# Altium schematic symbol library IMTP_Разное.SchLib: 51 symbols
Pins are listed as number, name and electrical type; pins without a type are passive.

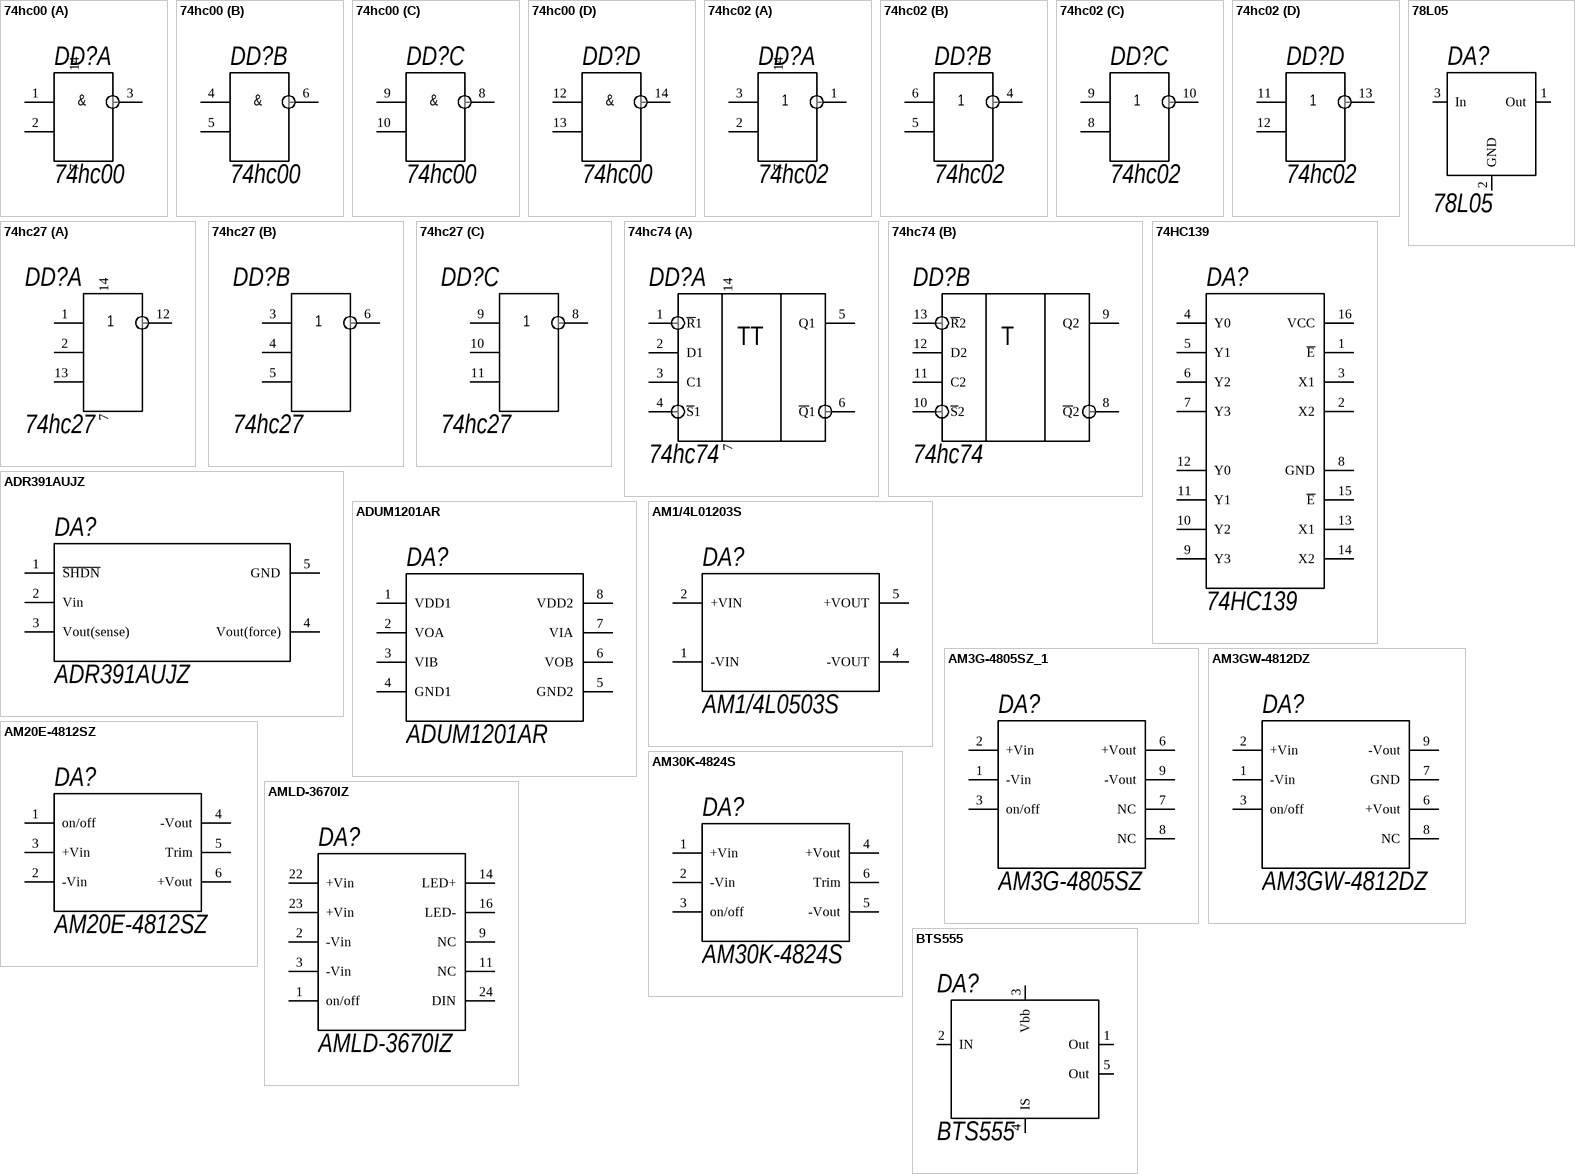
[diagram p0: symbols 74hc00 to BTS555]

## 74hc00
designator DD?
Quad 2-input NAND gate; LastRevisionDate: 11.06.2010; Name: 74hc00; OutComment: 74hc00; PackageDescription: SOIC14_M; Publisher: IMTP FEB RAS
footprint SOIC14_M (14-Pin Small Outline Integrated Circuit 1.27 mm Pitch, IPC Low Density)
footprint DIP14
part A pins: 1, 2, 3, 7 (power), 14 (power)
part B pins: 4, 5, 6
part C pins: 8, 9, 10
part D pins: 12, 13, 14
part A text: &
part B text: &
part C text: &
part D text: &

## 74hc02
designator DD?
Quad 2-input NOR gate; LastRevisionDate: 11.06.2010; Name: 74hc02; OutComment: 74hc02; PackageDescription: SOIC14_M; Publisher: IMTP FEB RAS
footprint SOIC14_M (14-Pin Small Outline Integrated Circuit 1.27 mm Pitch, IPC Low Density)
footprint DIP14
part A pins: 1, 2, 3, 7 (power), 14 (power)
part B pins: 4, 5, 6
part C pins: 8, 9, 10
part D pins: 11, 12, 13

## 74hc27
designator DD?
Quad 2-input OR gate; LastRevisionDate: 11.06.2010; Name: 74hc27; OutComment: 74hc27; PackageDescription: SOIC14_M; Publisher: IMTP FEB RAS
footprint SOIC14_M (14-Pin Small Outline Integrated Circuit 1.27 mm Pitch, IPC Low Density)
footprint DIP14
part A pins: 1, 2, 7 (power), 12, 13, 14 (power)
part B pins: 3 1, 4 2, 5 13, 6 12
part C pins: 8 12, 9 1, 10 2, 11 13

## 74hc74
designator DD?
LINE DECODER; LastRevisionDate: 11.06.2010; Name: 74hc74; OutComment: 74hc74; PackageDescription: SOIC14_M; Publisher: IMTP FEB RAS
footprint SOIC14_M (14-Pin Small Outline Integrated Circuit 1.27 mm Pitch, IPC Low Density)
part A pins: 1 ~{R}1, 2 D1, 3 С1, 4 ~{S}1, 5 Q1, 6 ~{Q}1, 7 (power), 14 (power)
part B pins: 8 ~{Q}2, 9 Q2, 10 ~{S}2, 11 С2, 12 D2, 13 ~{R}2
part A text: ТТ
part B text: Т

## 74HC139
designator DA?
димультиплексор; LastRevisionDate: 74HC139; Name: 74HC139; OutComment: 74HC139; PackageDescription: Кубик; Publisher: IMTP FEB RAS
footprint AM3GW-4812DZ
pins: 1 ~{E}, 2 X2, 3 X1, 4 Y0, 5 Y1, 6 Y2, 7 Y3, 8 GND, 9 Y3, 10 Y2, 11 Y1, 12 Y0, 13 X1, 14 X2, 15 ~{E}, 16 VCC

## 78L05
designator DA?
7805 TO-220; LastRevisionDate: 25.03.2010; Name: 78L05; OutComment: 78L05; PackageDescription: Кубик; Publisher: IMTP FEB RAS
footprint TO-92 (TO, Flat Index; 3 In-Line, Axial Leads; Body Dia. 5.1mm; Leads 0.48 x 0.48 mm (max))
pins: 1 Out, 2 GND, 3 In

## ADR391AUJZ
designator DA?
REF 2,5V; LastRevisionDate: 25.03.2010; Name: ADR391AUJZ; OutComment: ADR391AUJZ; PackageDescription: TO-92; Publisher: IMTP FEB RAS
footprint SOT23-5AM (SOT23, 5-Leads, Body 2.9x1.7mm, Pitch 0.95mm, Lead Span 2.8mm, IPC Low Density)
pins: 1 ~{SHDN} (power), 2 Vin (power), 3 Vout(sense) (power), 4 Vout(force), 5 GND (power)

## ADUM1201AR
designator DA?
DC/DC SOT23; LastRevisionDate: 25.03.2010; Name: ADUM1201AR; OutComment: ADUM1201AR; PackageDescription: TO-92; Publisher: IMTP FEB RAS
pins: 1 VDD1 (power), 2 VOA (power), 3 VIB (power), 4 GND1, 5 GND2 (power), 6 VOB (power), 7 VIA (power), 8 VDD2 (power)

## AM1/4L01203S
designator DA?, comment AM1/4L0503S
DC/DC SOT23; LastRevisionDate: 25.03.2010; Name: AM1/4L0503S; OutComment: AM1/4L0503S; Publisher: IMTP FEB RAS
footprint AM1/4L
pins: 1 -VIN (power), 2 +VIN (power), 4 -VOUT, 5 +VOUT

## AM3G-4805SZ_1
designator DA?, comment AM3G-4805SZ
DC-DC; LastRevisionDate: AM3G-4805SZ; Name: AM3G-4805SZ; OutComment: AM3G-4805SZ; PackageDescription: Кубик; Publisher: IMTP FEB RAS
footprint AM3G-4805SZ
pins: 1 -Vin, 2 +Vin, 3 on/off, 6 +Vout, 7 NC, 8 NC, 9 -Vout

## AM3GW-4812DZ
designator DA?
DC-DC; LastRevisionDate: AM3GW-4812DZ; Name: AM3GW-4812DZ; OutComment: AM3GW-4812DZ; PackageDescription: Кубик; Publisher: IMTP FEB RAS
footprint AM3GW-4812DZ
pins: 1 -Vin, 2 +Vin, 3 on/off, 6 +Vout, 7 GND, 8 NC, 9 -Vout

## AM20E-4812SZ
designator DA?
DC-DC; LastRevisionDate: AM20E-4812SZ; Name: AM20E-4812SZ; OutComment: AM20E-4812SZ; PackageDescription: Кубик; Publisher: IMTP FEB RAS
footprint AM20E-4812SZ
pins: 1 on/off, 2 -Vin, 3 +Vin, 4 -Vout, 5 Trim, 6 +Vout

## AM30K-4824S
designator DA?
DC-DC; LastRevisionDate: 25.03.2010; Name: AM30K-4824S; OutComment: AM30K-4824S; PackageDescription: Кубик; Publisher: IMTP FEB RAS
footprint AM30K-4824S
pins: 1 +Vin, 2 -Vin, 3 on/off, 4 +Vout, 5 -Vout, 6 Trim

## AMLD-3670IZ
designator DA?
LED DRIVE; LastRevisionDate: AMLD-3670IZ; Name: AMLD-3670IZ; OutComment: AMLD-3670IZ; PackageDescription: Кубик; Publisher: IMTP FEB RAS
footprint AMLD-3670IZ
pins: 1 on/off, 2 -Vin, 3 -Vin, 9 NC, 11 NC, 14 LED+, 16 LED-, 22 +Vin, 23 +Vin, 24 DIN

## BTS555
designator DA?
Smart Highside High Current Power Switch; LastRevisionDate: 11.06.2010; Name: BTS555; OutComment: BTS555; PackageDescription: TO-218AB; Publisher: IMTP FEB RAS
footprint TO-218AB
pins: 1 Out, 2 IN, 3 Vbb, 4 IS, 5 Out

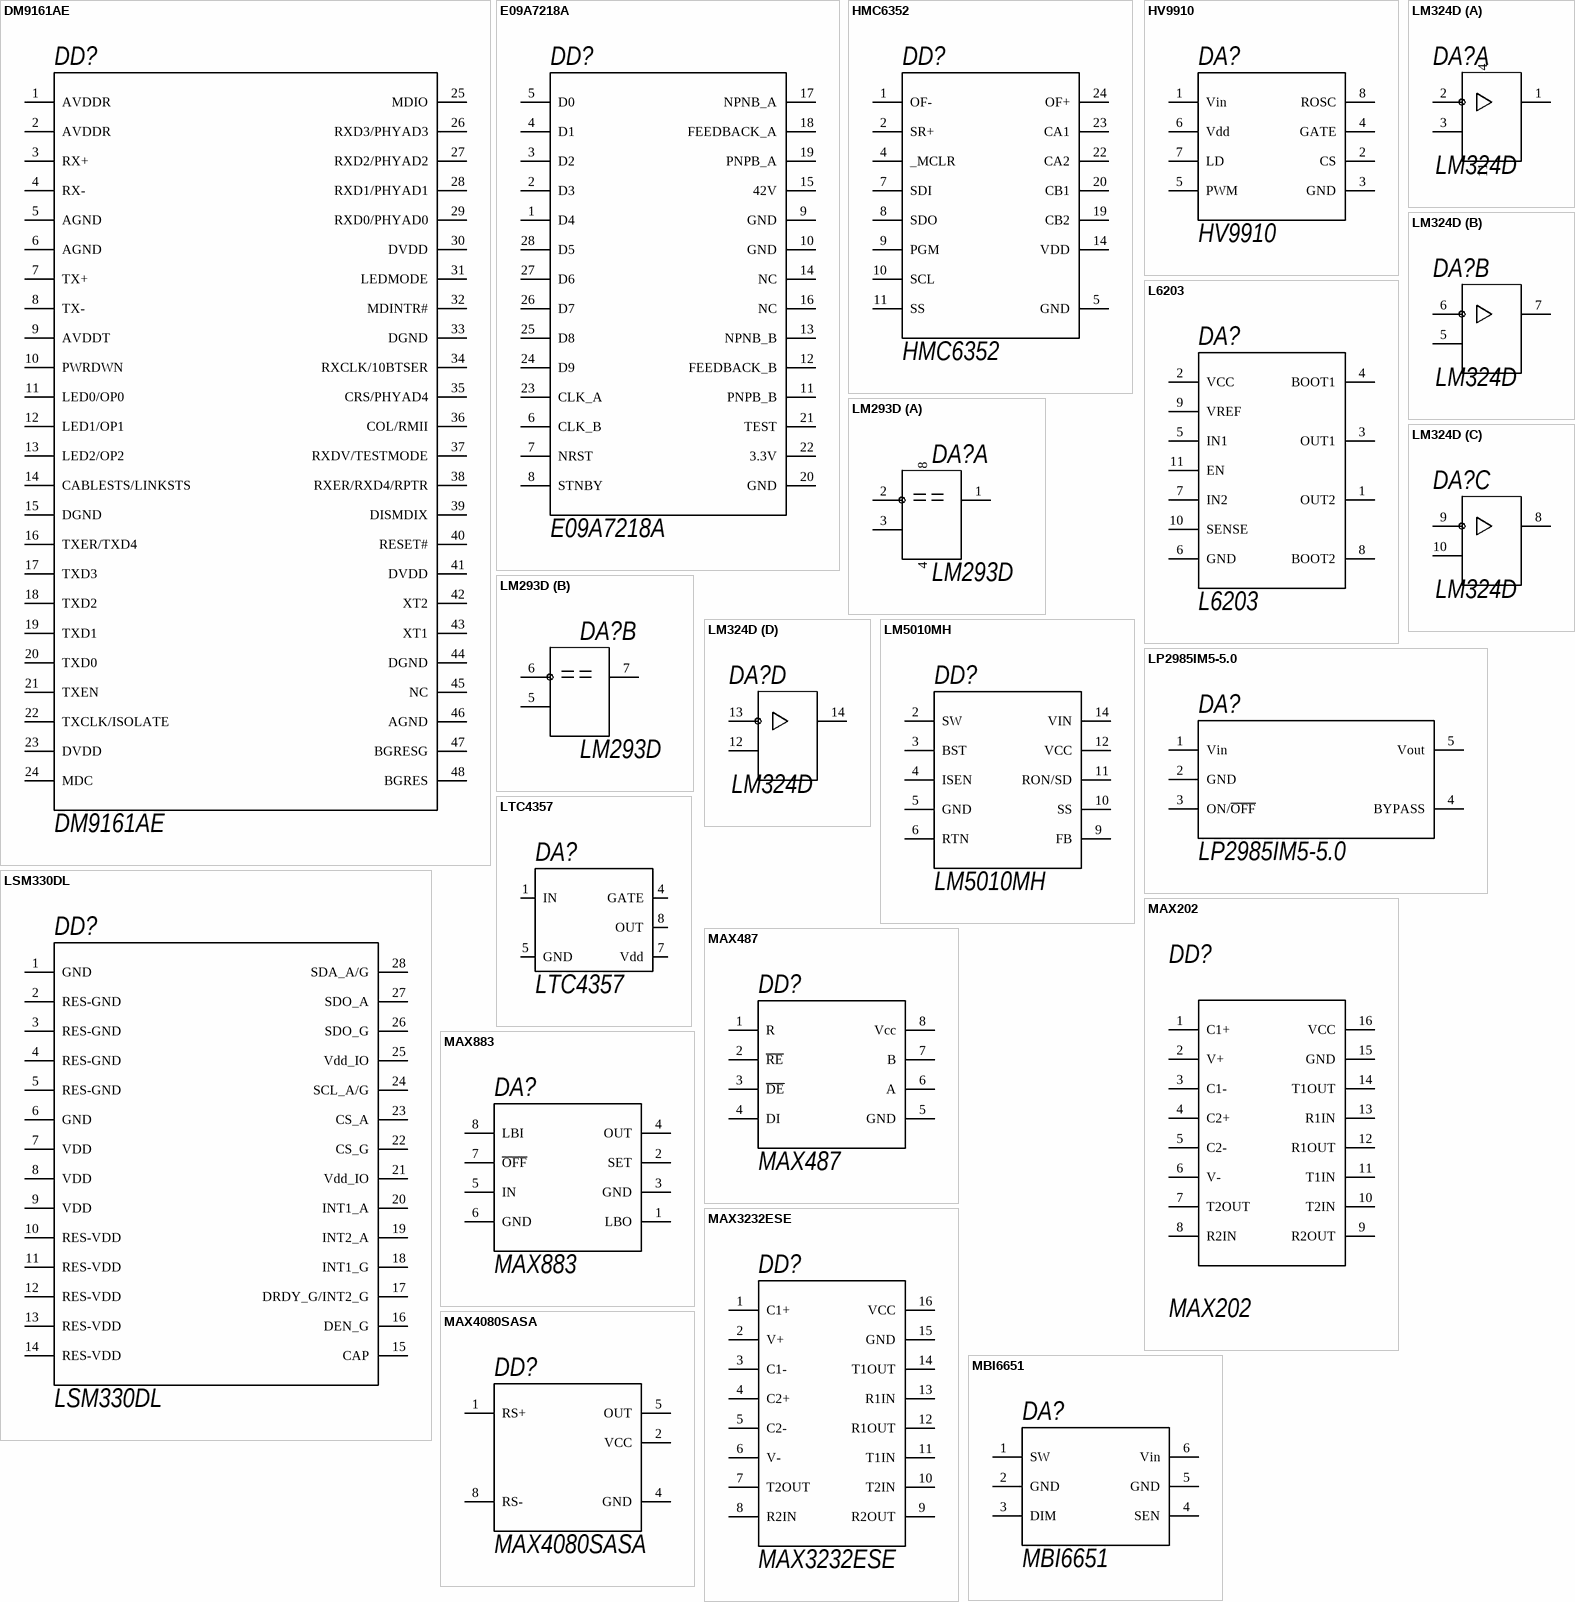
[diagram p1: symbols DM9161AE to MBI6651]

## DM9161AE
designator DD?
8-Bit AVR Microcontroller; Publisher: IMTP FEB RAS; PackageDescription: 64-Pin Thin Quad Flat Pack 0.8 mm Pitch; OutComment: DM9161AE; Name: DM9161AE; LatestRevisionDate: 22.03.2010
footprint 48A_M (Thin QFP, 48-Leads, Body 7x7mm, Pitch 0.5mm, IPC Low Density)
pins: 1 AVDDR, 2 AVDDR, 3 RX+, 4 RX-, 5 AGND, 6 AGND, 7 TX+, 8 TX-, 9 AVDDT, 10 PWRDWN, 11 LED0/OP0, 12 LED1/OP1, 13 LED2/OP2, 14 CABLESTS/LINKSTS, 15 DGND, 16 TXER/TXD4, 17 TXD3, 18 TXD2, 19 TXD1, 20 TXD0, 21 TXEN (power), 22 TXCLK/ISOLATE (power), 23 DVDD, 24 MDC, 25 MDIO, 26 RXD3/PHYAD3, 27 RXD2/PHYAD2, 28 RXD1/PHYAD1, 29 RXD0/PHYAD0, 30 DVDD, 31 LEDMODE, 32 MDINTR#, 33 DGND, 34 RXCLK/10BTSER, 35 CRS/PHYAD4, 36 COL/RMII, 37 RXDV/TESTMODE, 38 RXER/RXD4/RPTR, 39 DISMDIX, 40 RESET#, 41 DVDD, 42 XT2, 43 XT1, 44 DGND, 45 NC, 46 AGND, 47 BGRESG, 48 BGRES

## E09A7218A
designator DD?
8-Bit AVR Microcontroller; Publisher: IMTP FEB RAS; OutComment: E09A7218A; Name: E09A7218A; LatestRevisionDate: 22.03.2010
pins: 1 D4, 2 D3, 3 D2, 4 D1, 5 D0, 6 CLK_B, 7 NRST, 8 STNBY, 9 GND, 10 GND, 11 PNPB_B, 12 FEEDBACK_B, 13 NPNB_B, 14 NC, 15 42V, 16 NC, 17 NPNB_A, 18 FEEDBACK_A, 19 PNPB_A, 20 GND, 21 TEST, 22 3.3V, 23 CLK_A, 24 D9, 25 D8, 26 D7, 27 D6, 28 D5

## HMC6352
designator DD?
Publisher: IMTP FEB RAS; OutComment: HMC6352; Name: HMC6352; LatestRevisionDate: 22.03.2010
pins: 1 OF-, 2 SR+, 4 _MCLR, 5 GND, 7 SDI, 8 SDO, 9 PGM, 10 SCL, 11 SS, 14 VDD, 19 CB2, 20 CB1, 22 CA2 (power), 23 CA1, 24 OF+

## HV9910
designator DA?
LastRevisionDate: 25.03.2010; Name: HV9910; OutComment: HV9910; PackageDescription: SOIC 8; Publisher: IMTP FEB RAS
footprint SOJ-8
pins: 1 Vin, 2 CS, 3 GND, 4 GATE, 5 PWM, 6 Vdd, 7 LD, 8 ROSC

## L6203
designator DA?
H-most; LastRevisionDate: 11.06.2010; Name: L6203; OutComment: L6203; PackageDescription: SOIC16; Publisher: IMTP FEB RAS
pins: 1 OUT2, 2 VCC, 3 OUT1, 4 BOOT1 (power), 5 IN1, 6 GND, 7 IN2, 8 BOOT2, 9 VREF (power), 10 SENSE (power), 11 EN

## LM293D
designator DA?
LastRevisionDate: 11.06.2010; Name: LM293D; OutComment: LM293D; PackageDescription: TSSOP-24; Publisher: IMTP FEB RAS
footprint SOJ-8
part A pins: 1, 2, 3, 4 (power), 8 (power)
part B pins: 5, 6, 7

## LM324D
designator DA?
LastRevisionDate: 11.06.2010; Name: LM324D; OutComment: LM324D; Publisher: IMTP FEB RAS
footprint SOIC14_M (14-Pin Small Outline Integrated Circuit 1.27 mm Pitch, IPC Low Density)
part A pins: 1, 2, 3, 4 (power), 11 (power)
part B pins: 5, 6, 7
part C pins: 8, 9, 10
part D pins: 12, 13, 14

## LM5010MH
designator DD?
Publisher: IMTP FEB RAS; OutComment: LM5010MH; Name: LM5010MH; LatestRevisionDate: 22.03.2010
pins: 2 SW, 3 BST, 4 ISEN, 5 GND, 6 RTN, 9 FB, 10 SS, 11 RON/SD, 12 VCC, 14 VIN

## LP2985IM5-5.0
designator DA?
STABILIZATOR 5V SOT23; LastRevisionDate: 25.03.2010; Name: LP2985IM5-5.0; OutComment: LP2985IM5-5.0; PackageDescription: SOT23; Publisher: IMTP FEB RAS
footprint SOT23-5AM (SOT23, 5-Leads, Body 2.9x1.7mm, Pitch 0.95mm, Lead Span 2.8mm, IPC Low Density)
pins: 1 Vin (power), 2 GND (power), 3 ON/~{OFF} (power), 4 BYPASS, 5 Vout (power)

## LSM330DL
designator DD?
Publisher: IMTP FEB RAS; OutComment: LSM330DL; Name: LSM330DL; LatestRevisionDate: 22.03.2010
pins: 1 GND, 2 RES-GND, 3 RES-GND, 4 RES-GND, 5 RES-GND, 6 GND, 7 VDD, 8 VDD, 9 VDD, 10 RES-VDD, 11 RES-VDD, 12 RES-VDD, 13 RES-VDD, 14 RES-VDD, 15 CAP, 16 DEN_G, 17 DRDY_G/INT2_G, 18 INT1_G, 19 INT2_A, 20 INT1_A, 21 Vdd_IO (power), 22 CS_G (power), 23 CS_A, 24 SCL_A/G, 25 Vdd_IO, 26 SDO_G, 27 SDO_A, 28 SDA_A/G

## LTC4357
designator DA?
Positive High Voltage  Ideal Diode Controller; LastRevisionDate: 11.06.2010; Name: LTC4357; OutComment: LTC4357; PackageDescription: MSOP8; Publisher: IMTP FEB RAS
footprint MSOP8 (TSOP, 8-Leads, Body 3x3mm, Pitch 0.65mm, IPC High Density)
pins: 1 IN, 4 GATE, 5 GND, 7 Vdd, 8 OUT

## MAX202
designator DD?
RS-232 Transceiver; LastRevisionDate: 11.06.2010; Name: MAX202; OutComment: MAX202; PackageDescription: SOIC16; Publisher: IMTP FEB RAS
footprint SOIC16 (Small Outline; 16 Leads; Body Width 3.9 mm; Pitch 1.27 mm)
pins: 1 C1+, 2 V+ (power), 3 C1-, 4 C2+, 5 C2-, 6 V- (power), 7 T2OUT, 8 R2IN, 9 R2OUT, 10 T2IN, 11 T1IN, 12 R1OUT, 13 R1IN, 14 T1OUT, 15 GND (power), 16 VCC (power)

## MAX487
designator DD?
LastRevisionDate: 25.03.2010; Name: MAX487; OutComment: MAX487; PackageDescription: SOIC 8; Publisher: IMTP FEB RAS
footprint SOJ-8
pins: 1 R, 2 ~{RE}, 3 ~{DE}, 4 DI, 5 GND, 6 A, 7 B, 8 Vcc

## MAX883
designator DA?
LastRevisionDate: 25.03.2010; Name: MAX883; OutComment: MAX883; PackageDescription: SOIC 8; Publisher: IMTP FEB RAS
footprint SOJ-8
pins: 1 LBO, 2 SET, 3 GND, 4 OUT, 5 IN, 6 GND, 7 ~{OFF}, 8 LBI

## MAX3232ESE
designator DD?
RS-232 Transceiver; LastRevisionDate: 11.06.2010; Name: MAX3232ESE; OutComment: MAX3232ESE; PackageDescription: SOIC16; Publisher: IMTP FEB RAS
footprint SOIC16 (Small Outline; 16 Leads; Body Width 3.9 mm; Pitch 1.27 mm)
pins: 1 C1+, 2 V+ (power), 3 C1-, 4 C2+, 5 C2-, 6 V- (power), 7 T2OUT, 8 R2IN, 9 R2OUT, 10 T2IN, 11 T1IN, 12 R1OUT, 13 R1IN, 14 T1OUT, 15 GND (power), 16 VCC (power)

## MAX4080SASA
designator DD?
LastRevisionDate: 25.03.2010; Name: MAX4080SASA; OutComment: MAX4080SASA; PackageDescription: SOIC 8; Publisher: IMTP FEB RAS
footprint SOJ-8
pins: 1 RS+, 2 VCC, 4 GND, 5 OUT, 8 RS-

## MBI6651
designator DA?
LED DRIVE; LastRevisionDate: MBI6651; Name: MBI6651; OutComment: MBI6651; PackageDescription: Кубик; Publisher: IMTP FEB RAS
footprint SOT363-6M
pins: 1 SW, 2 GND, 3 DIM, 4 SEN, 5 GND, 6 Vin

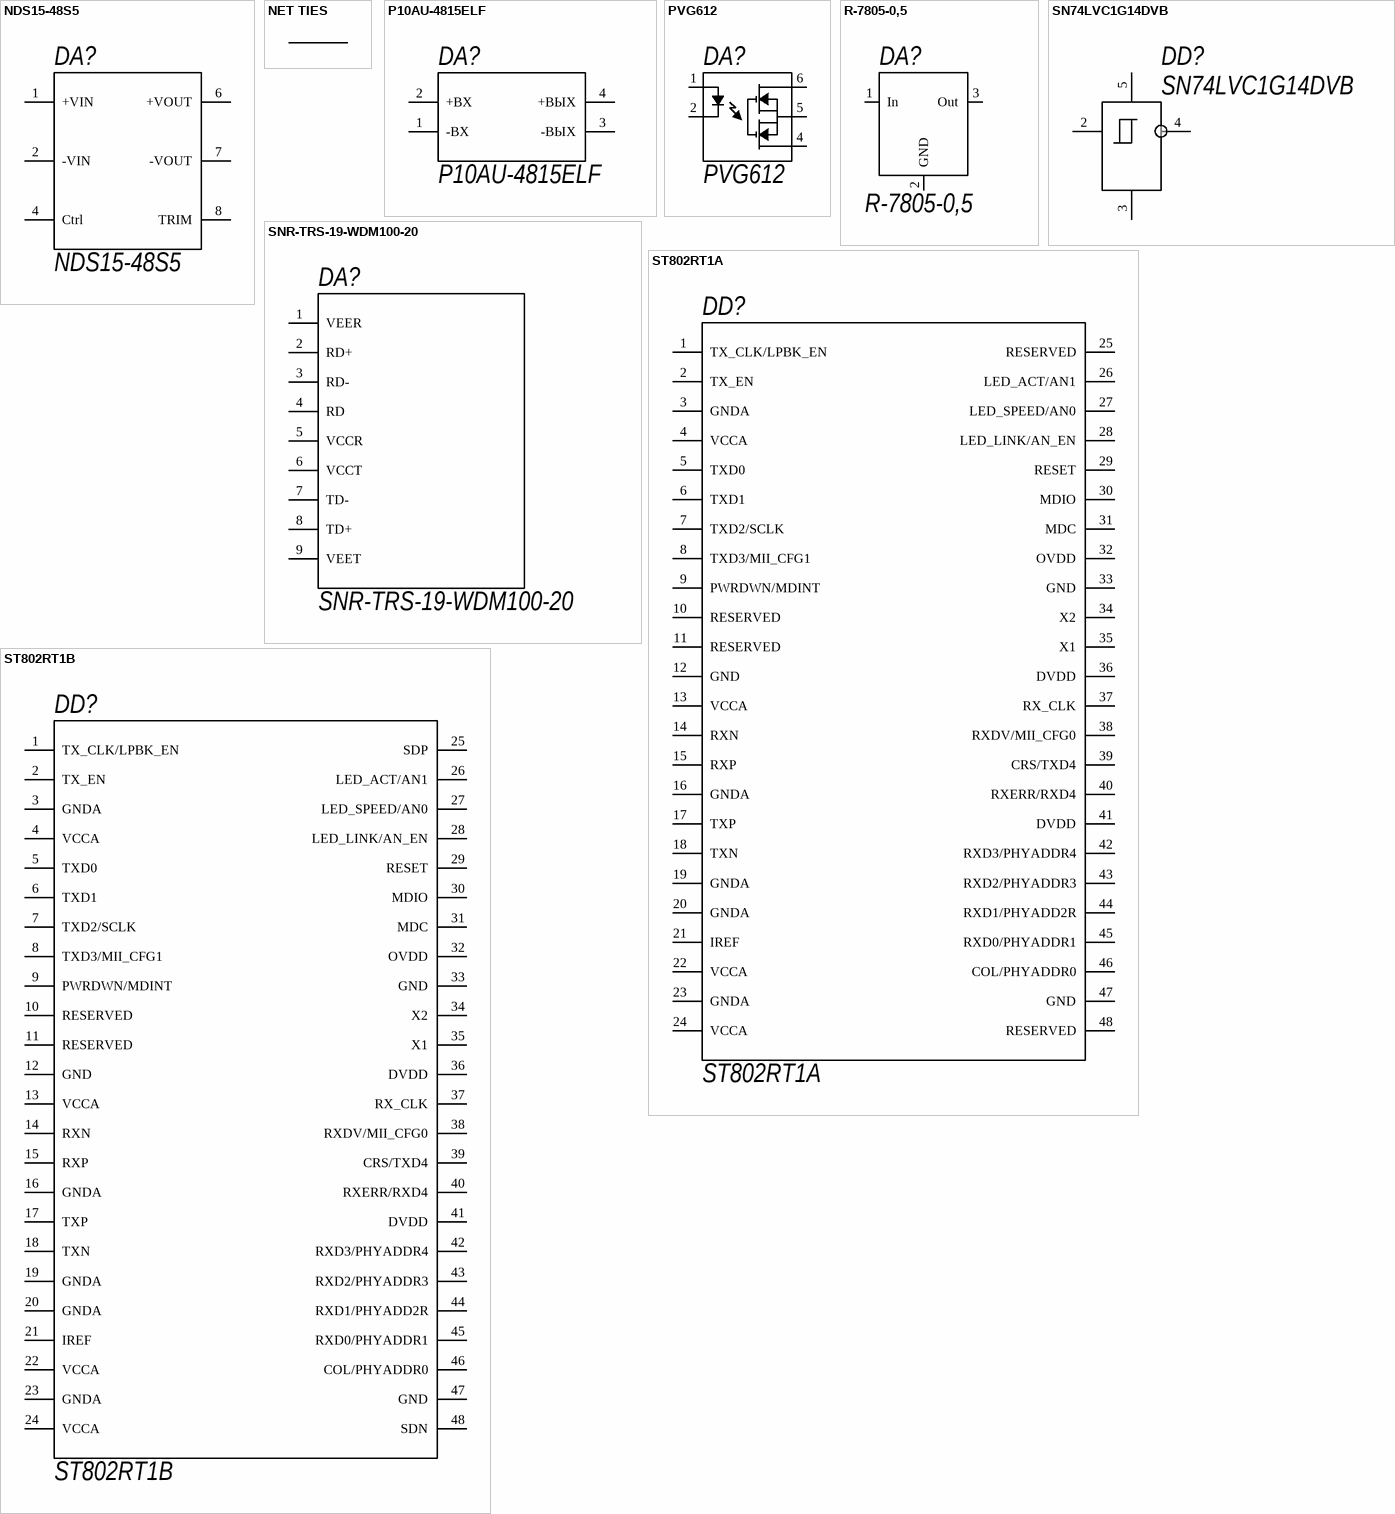
[diagram p2: symbols NDS15-48S5 to ST802RT1B]

## NDS15-48S5
designator DA?
DC-DC; LastRevisionDate: 7.12.2010; Name: NDS15-48S5; OutComment: NDS15-48S5; PackageDescription: Кубик; Publisher: IMTP FEB RAS
footprint NDS15-48S05
pins: 1 +VIN, 2 -VIN, 4 Ctrl, 6 +VOUT, 7 -VOUT, 8 TRIM

## NET TIES
designator *  (value not drawn)  (net tie, no BOM)
footprint NET TIES
pins: 1, 2

## P10AU-4815ELF
designator DA?
DC-DC; LastRevisionDate: 25.03.2010; Name: P10AU-4815ELF; OutComment: P10AU-4815ELF; PackageDescription: Кубик; Publisher: IMTP FEB RAS
pins: 1 -ВХ, 2 +ВХ, 3 -ВЫХ, 4 +ВЫХ

## PVG612
designator DA?
Power MOSFET Photovoltaic Relay; LastRevisionDate: 11.06.2010; Name: PVG612; OutComment: PVG612; PackageDescription: DIP-6; Publisher: IMTP FEB RAS
footprint DIP-6 (DIP; 6 Leads; Row Spacing 7.62 mm; Pitch 2.54 mm)
pins: 1 IN, 2 Vbb, 4 Out, 5 Out, 6 Out

## R-7805-0,5
designator DA?
7805 TO-220; LastRevisionDate: 25.03.2010; Name: R-7805-0,5; OutComment: R-7805-0,5; PackageDescription: Кубик; Publisher: IMTP FEB RAS
footprint Кубик
pins: 1 In, 2 GND, 3 Out

## SN74LVC1G14DVB
designator DD?
DC/DC SOT23; LastRevisionDate: 25.03.2010; Name: SN74LVC1G14DVB; OutComment: SN74LVC1G14DVB; PackageDescription: TO-92; Publisher: IMTP FEB RAS
pins: 2 (power), 3 (power), 4, 5 (power)

## SNR-TRS-19-WDM100-20
designator DA?
Publisher: IMTP FEB RAS; OutComment: SNR-TRS-19-WDM100-20; Name: SNR-TRS-19-WDM100-20; LatestRevisionDate: 22.03.2010
pins: 1 VEER, 2 RD+, 3 RD-, 4 RD, 5 VCCR, 6 VCCT, 7 TD-, 8 TD+, 9 VEET

## ST802RT1A
designator DD?
Publisher: IMTP FEB RAS; OutComment: ST802RT1A; Name: ST802RT1A; LatestRevisionDate: 22.03.2010
pins: 1 TX_CLK/LPBK_EN, 2 TX_EN, 3 GNDA, 4 VCCA, 5 TXD0, 6 TXD1, 7 TXD2/SCLK, 8 TXD3/MII_CFG1, 9 PWRDWN/MDINT, 10 RESERVED, 11 RESERVED, 12 GND, 13 VCCA, 14 RXN, 15 RXP, 16 GNDA, 17 TXP, 18 TXN, 19 GNDA, 20 GNDA, 21 IREF (power), 22 VCCA (power), 23 GNDA, 24 VCCA, 25 RESERVED, 26 LED_ACT/AN1, 27 LED_SPEED/AN0, 28 LED_LINK/AN_EN, 29 RESET, 30 MDIO, 31 MDC, 32 OVDD, 33 GND, 34 X2, 35 X1, 36 DVDD, 37 RX_CLK, 38 RXDV/MII_CFG0, 39 CRS/TXD4, 40 RXERR/RXD4, 41 DVDD, 42 RXD3/PHYADDR4, 43 RXD2/PHYADDR3, 44 RXD1/PHYADD2R, 45 RXD0/PHYADDR1, 46 COL/PHYADDR0, 47 GND, 48 RESERVED

## ST802RT1B
designator DD?
Publisher: IMTP FEB RAS; OutComment: ST802RT1B; Name: ST802RT1B; LatestRevisionDate: 22.03.2010
pins: 1 TX_CLK/LPBK_EN, 2 TX_EN, 3 GNDA, 4 VCCA, 5 TXD0, 6 TXD1, 7 TXD2/SCLK, 8 TXD3/MII_CFG1, 9 PWRDWN/MDINT, 10 RESERVED, 11 RESERVED, 12 GND, 13 VCCA, 14 RXN, 15 RXP, 16 GNDA, 17 TXP, 18 TXN, 19 GNDA, 20 GNDA, 21 IREF (power), 22 VCCA (power), 23 GNDA, 24 VCCA, 25 SDP, 26 LED_ACT/AN1, 27 LED_SPEED/AN0, 28 LED_LINK/AN_EN, 29 RESET, 30 MDIO, 31 MDC, 32 OVDD, 33 GND, 34 X2, 35 X1, 36 DVDD, 37 RX_CLK, 38 RXDV/MII_CFG0, 39 CRS/TXD4, 40 RXERR/RXD4, 41 DVDD, 42 RXD3/PHYADDR4, 43 RXD2/PHYADDR3, 44 RXD1/PHYADD2R, 45 RXD0/PHYADDR1, 46 COL/PHYADDR0, 47 GND, 48 SDN

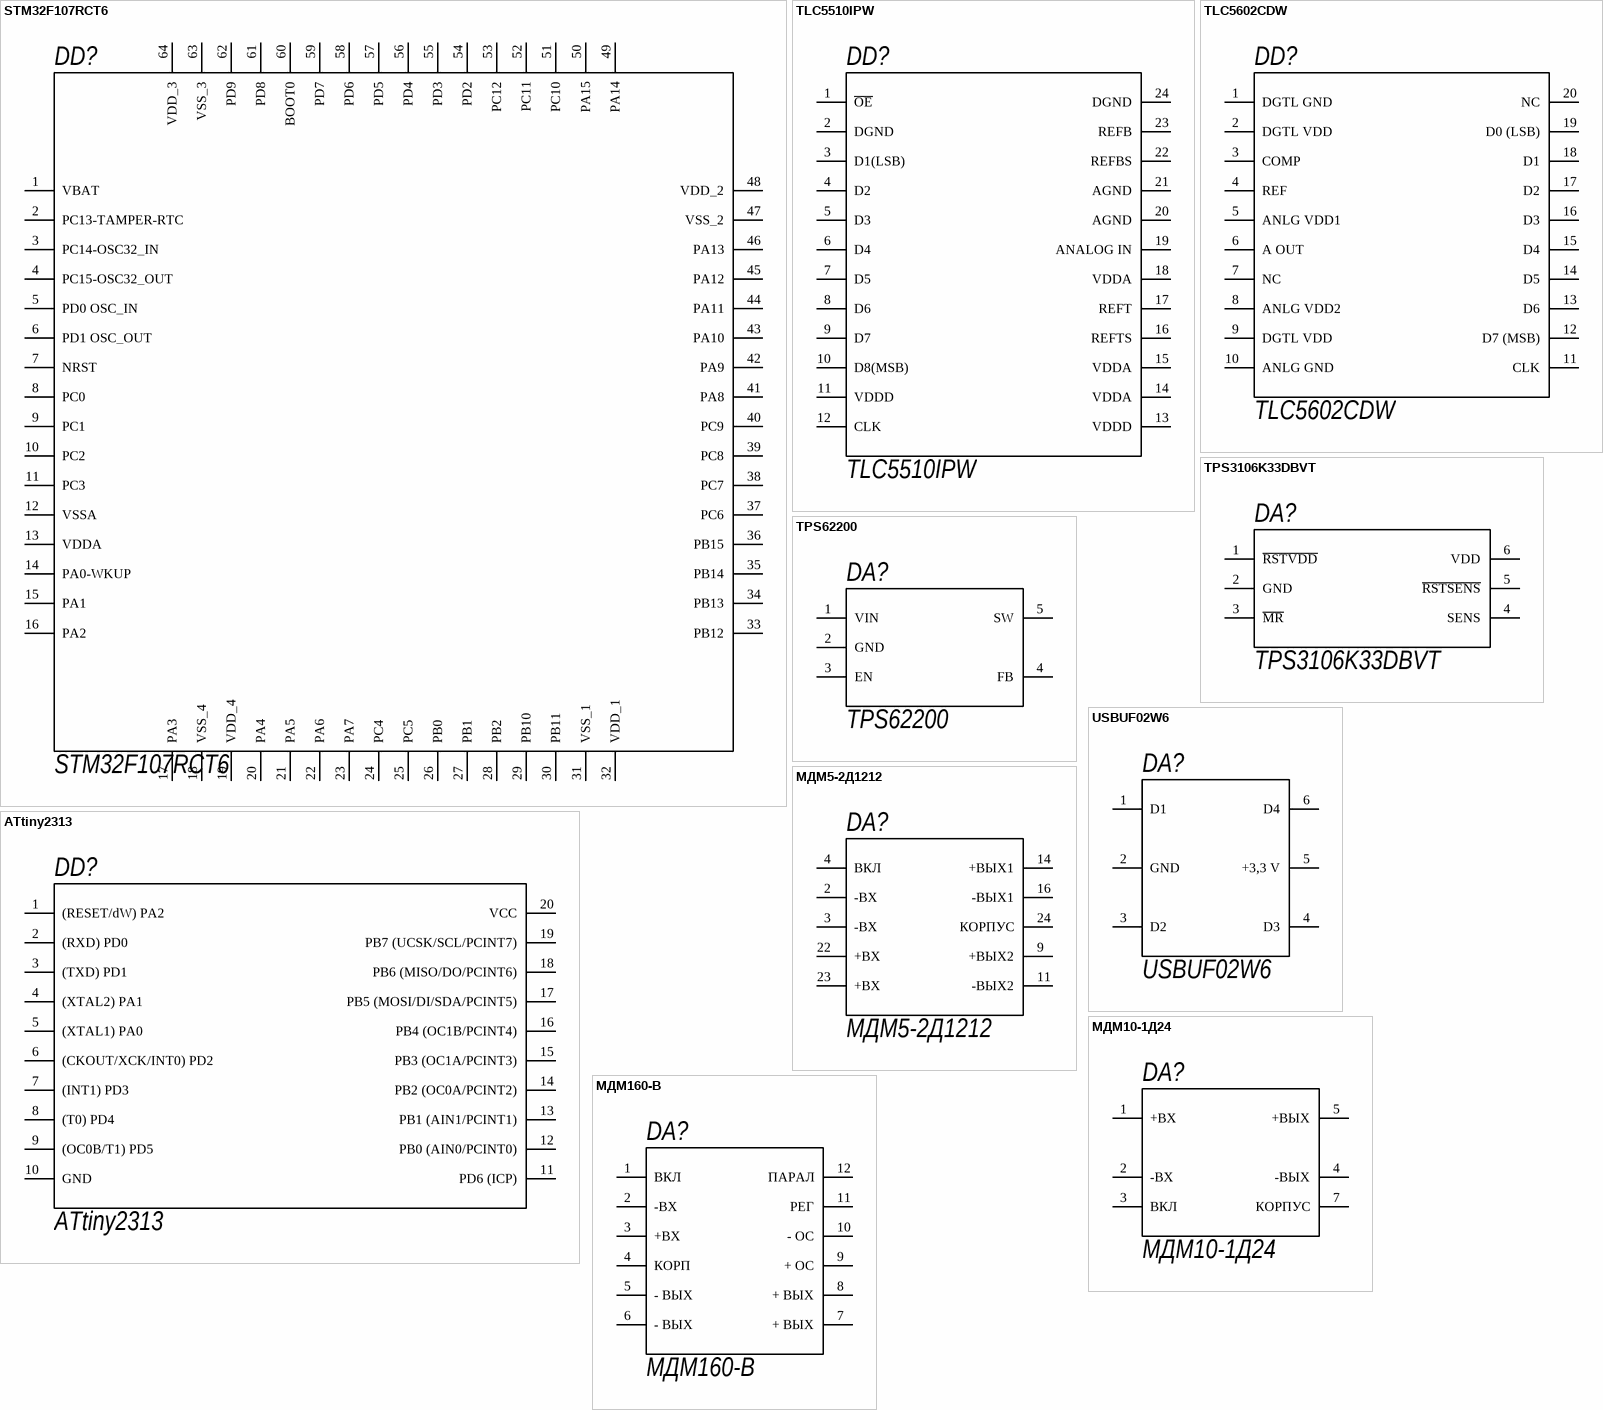
[diagram p3: symbols STM32F107RCT6 to МДМ160-В]

## STM32F107RCT6
designator DD?
Publisher: IMTP FEB RAS; OutComment: STM32F107RCT6; Name: STM32F107RCT6; LatestRevisionDate: 22.03.2010
pins: 1 VBAT, 2 PC13-TAMPER-RTC, 3 PC14-OSC32_IN, 4 PC15-OSC32_OUT, 5 PD0 OSC_IN, 6 PD1 OSC_OUT, 7 NRST, 8 PC0, 9 PC1, 10 PC2, 11 PC3, 12 VSSA, 13 VDDA, 14 PA0-WKUP, 15 PA1, 16 PA2, 17 PA3, 18 VSS_4, 19 VDD_4, 20 PA4, 21 PA5 (power), 22 PA6 (power), 23 PA7, 24 PC4, 25 PC5, 26 PB0, 27 PB1, 28 PB2, 29 PB10, 30 PB11, 31 VSS_1, 32 VDD_1, 33 PB12, 34 PB13, 35 PB14, 36 PB15, 37 PC6, 38 PC7, 39 PC8, 40 PC9, 41 PA8, 42 PA9, 43 PA10, 44 PA11, 45 PA12, 46 PA13, 47 VSS_2, 48 VDD_2, 49 PA14, 50 PA15, 51 PC10, 52 PC11, 53 PC12 (power), 54 PD2 (power), 55 PD3, 56 PD4, 57 PD5, 58 PD6, 59 PD7, 60 BOOT0, 61 PD8, 62 PD9, 63 VSS_3, 64 VDD_3

## TLC5510IPW
designator DD?
Publisher: IMTP FEB RAS; OutComment: TLC5510IPW; Name: TLC5510IPW; LatestRevisionDate: 22.03.2010
pins: 1 ~{OE}, 2 DGND, 3 D1(LSB), 4 D2, 5 D3, 6 D4, 7 D5, 8 D6, 9 D7, 10 D8(MSB), 11 VDDD, 12 CLK, 13 VDDD, 14 VDDA, 15 VDDA, 16 REFTS, 17 REFT, 18 VDDA, 19 ANALOG IN, 20 AGND, 21 AGND, 22 REFBS, 23 REFB, 24 DGND

## TLC5602CDW
designator DD?
Publisher: IMTP FEB RAS; OutComment: TLC5602CDW; Name: TLC5602CDW; LatestRevisionDate: 22.03.2010
pins: 1 DGTL GND, 2 DGTL VDD, 3 COMP, 4 REF, 5 ANLG VDD1, 6 A OUT, 7 NC, 8 ANLG VDD2, 9 DGTL VDD, 10 ANLG GND, 11 CLK, 12 D7 (MSB), 13 D6, 14 D5, 15 D4, 16 D3, 17 D2, 18 D1, 19 D0 (LSB), 20 NC

## TPS3106K33DBVT
designator DA?
DC/DC SOT23; LastRevisionDate: 25.03.2010; Name: TPS3106K33DBVT; OutComment: TPS3106K33DBVT; PackageDescription: TO-92; Publisher: IMTP FEB RAS
pins: 1 ~{RSTVDD} (power), 2 GND (power), 3 ~{MR} (power), 4 SENS, 5 ~{RSTSENS} (power), 6 VDD (power)

## TPS62200
designator DA?
DC/DC SOT23; LastRevisionDate: 25.03.2010; Name: TPS62200; OutComment: TPS62200; PackageDescription: TO-92; Publisher: IMTP FEB RAS
footprint SOT23-5AM (SOT23, 5-Leads, Body 2.9x1.7mm, Pitch 0.95mm, Lead Span 2.8mm, IPC Low Density)
pins: 1 VIN (power), 2 GND (power), 3 EN (power), 4 FB, 5 SW (power)

## USBUF02W6
designator DA?
USB; LastRevisionDate: 7.12.2010; Name: USBUF02W6; OutComment: USBUF02W6; Publisher: IMTP FEB RAS
footprint SOT363-6M
pins: 1 D1, 2 GND, 3 D2, 4 D3, 5 +3,3 V, 6 D4

## АТtiny2313
designator DD?
Publisher: IMTP FEB RAS; OutComment: АТtiny2313; Name: АТtiny2313; LatestRevisionDate: 22.03.2010
pins: 1 (RESET/dW) PA2, 2 (RXD) PD0, 3 (TXD) PD1, 4 (XTAL2) PA1, 5 (XTAL1) PA0, 6 (CKOUT/XCK/INT0) PD2, 7 (INT1) PD3, 8 (T0) PD4, 9 (OC0B/T1) PD5, 10 GND, 11 PD6 (ICP), 12 PB0 (AIN0/PCINT0), 13 PB1 (AIN1/PCINT1), 14 PB2 (OC0A/PCINT2), 15 PB3 (OC1A/PCINT3), 16 PB4 (OC1B/PCINT4), 17 PB5 (MOSI/DI/SDA/PCINT5), 18 PB6 (MISO/DO/PCINT6), 19 PB7 (UCSK/SCL/PCINT7), 20 VCC

## МДМ5-2Д1212
designator DA?
DC-DC; LastRevisionDate: 25.03.2010; Name: МДМ5-2Д1212; OutComment: МДМ5-2Д1212; PackageDescription: Кубик; Publisher: IMTP FEB RAS
footprint МДМ5-2Д1212
pins: 2 -ВХ, 3 -ВХ, 4 ВКЛ, 9 +ВЫХ2, 11 -ВЫХ2, 14 +ВЫХ1, 16 -ВЫХ1, 22 +ВХ, 23 +ВХ, 24 КОРПУС

## МДМ10-1Д24
designator DA?
DC-DC; LastRevisionDate: 25.03.2010; Name: МДМ10-1Д24; OutComment: МДМ10-1Д24; PackageDescription: Кубик; Publisher: IMTP FEB RAS
footprint МДМ10-1Д24
pins: 1 +ВХ, 2 -ВХ, 3 ВКЛ, 4 -ВЫХ, 5 +ВЫХ, 7 КОРПУС

## МДМ160-В
designator DA?
DC-DC; LastRevisionDate: 25.03.2010; Name: МДМ160-В; OutComment: МДМ160-В; PackageDescription: Кубик; Publisher: IMTP FEB RAS
footprint МДМ160-1Д27
pins: 1 ВКЛ, 2 -ВХ, 3 +ВХ, 4 КОРП, 5 - ВЫХ, 6 - ВЫХ, 7 + ВЫХ, 8 + ВЫХ, 9 + ОС, 10 - ОС, 11 РЕГ, 12 ПАРАЛ